# EAGLE library part LP2989 (library texas-instruments)
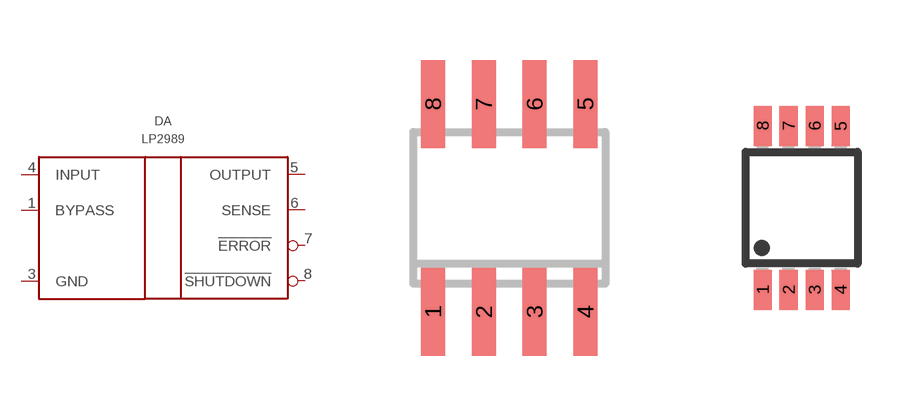
[diagram p7: symbol with the pads of SOIC8; footprints SOIC8, MSOP8]

Designator prefix DA

## LP2989IM-3.3/NOPB  [SOIC8]
1  BYPASS  in
3  GND  pwr
4  INPUT  pwr
5  OUTPUT  pwr
6  SENSE  in
7  !ERROR  out
8  !SHUTDOWN  out

## LP2989IM-5.0/NOPB  [SOIC8]
Pads as for SOIC8

## LP2989IMX-2.5/NOPB  [SOIC8]
Pads as for SOIC8

## LP2989IMX-3.0/NOPB  [SOIC8]
Pads as for SOIC8

## LP2989IMX-3.3/NOPB  [SOIC8]
Pads as for SOIC8

## LP2989IMX-5.0/NOPB  [SOIC8]
Pads as for SOIC8

## LP2989IMM-2.8/NOPB  [MSOP8]
Pads as for SOIC8

## LP2989IMM-3.0/NOPB  [MSOP8]
Pads as for SOIC8

## LP2989IMM-3.3/NOPB  [MSOP8]
Pads as for SOIC8

## LP2989IMM-5.0/NOPB  [MSOP8]
Pads as for SOIC8

## LP2989IMMX-2.8/NOPB  [MSOP8]
Pads as for SOIC8

## LP2989IMMX-5.0/NOPB  [MSOP8]
Pads as for SOIC8

## LP2989AIMMX-5.0/NOPB  [MSOP8]
Pads as for SOIC8

## LP2989AIMX-2.5/NOPB  [SOIC8]
Pads as for SOIC8

## LP2989AIMX-3.0/NOPB  [SOIC8]
Pads as for SOIC8

## LP2989AIMX-3.3/NOPB  [SOIC8]
Pads as for SOIC8

## LP2989AIMX-5.0/NOPB  [SOIC8]
Pads as for SOIC8

## LP2989IM-2.5/NOPB  [SOIC8]
Pads as for SOIC8

## LP2989IM-3.0/NOPB  [SOIC8]
Pads as for SOIC8

## Footprint SOIC8 (pad centres in mm)
Small Outline IC
smd 0.6 x 2.2: 1 -1.905,-2.6; 2 -0.635,-2.6; 3 0.635,-2.6; 4 1.905,-2.6; 5 1.905,2.6; 6 0.635,2.6; 7 -0.635,2.6; 8 -1.905,2.6

## Footprint MSOP8 (pad centres in mm)
Micro Small Outline Package Grid .65mm
smd 0.45 x 1: 1 -0.975,-2.05; 2 -0.325,-2.05; 3 0.325,-2.05; 4 0.975,-2.05; 5 0.975,2.05; 6 0.325,2.05; 7 -0.325,2.05; 8 -0.975,2.05